# Altium footprint library SM_L_11MMx10MM.PcbLib: 1 footprints
Each footprint in its own frame and in the unit in brackets; x right, y up, seen from the top. Pads: shape width x height; smd on the part's side, far side on the other; paste and mask are expansions set on the pad; w line width, h text height; cw(c..) or ccw(c..) is an arc to the next point about the centre after c.
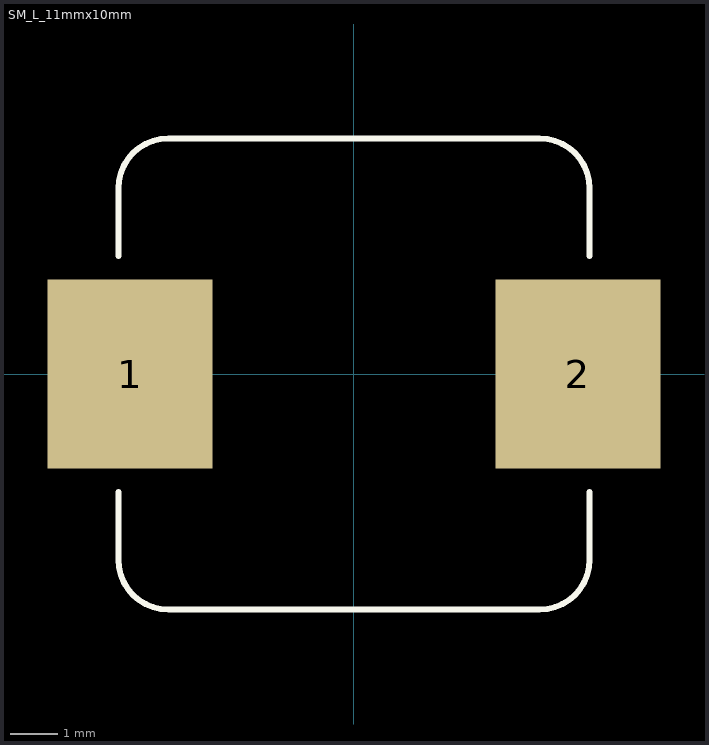
[diagram p0: the footprint, top view; thin cyan lines are the x and y axes]

## SM_L_11mmx10mm [mm]
pads (2):
  rect 3.5x4 smd mask+0.076: 1(-4.75,0) 2(4.75,0)
Top Overlay:
  lines w0.127: -5,-2.5 -5,-3.933 ccw(c-3.933,-3.933) -3.933,-5 3.933,-5 ccw(c3.933,-3.933) 5,-3.933 5,-2.5 ; -5,2.5 -5,3.933 cw(c-3.933,3.933) -3.933,5 3.933,5 cw(c3.933,3.933) 5,3.933 5,2.5
3D body: height 4.3, standoff 0, extent -5,-5 5,5
3D body: height 2, standoff 0, extent -5.5,-1.7 -5,1.7
3D body: height 2, standoff 0, extent 5,-1.7 5.5,1.7